# Altium schematic symbol library CONUFL001-SMD-T.SchLib: 1 symbol
Pins are listed as number, name and electrical type; pins without a type are passive.

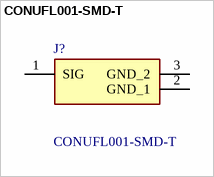
[diagram p0: symbol CONUFL001-SMD-T]

## CONUFL001-SMD-T
designator J?
RF Connectors / Coaxial Connectors T&R U.FL Straight Surface Mount Jack; Manufacturer_Name: TE Connectivity; Geometry.Height: 1.3mm; Manufacturer_Part_Number: CONUFL001-SMD-T; Mouser Part Number: N/A; Mouser Price/Stock: https://www.mouser.co.uk/ProductDetail/TE-Connectivity/CONUFL001-SMD-T?qs=3Rah4i%252BhyCHmRzMH%252BkLkPQ%3D%3D; Arrow Part Number: CONUFL001-SMD-T; Arrow Price/Stock: https://www.arrow.com/en/products/conufl001-smd-t/te-connectivity?utm_currency=USD&region=nac; Datasheet Link: https://eu.mouser.com/datasheet/2/418/9/ENG_DS_CONUFL001_SMD_T_B-3238717.pdf
footprint CONUFL001SMDT
pins: 1 SIG, 2 GND_1, 3 GND_2